# Altium schematic symbol library Cap 1uF.Schlib: 1 symbol
Pins are listed as number, name and electrical type; pins without a type are passive.

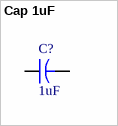
[diagram p0: symbol Cap 1uF]

## Cap 1uF
designator C?, comment 1uF
Electrolytic capacitor
pins: 1, 2